# EAGLE library part DRV8424PPWPR (library DRV8424PPWPR)
Motor / Motion / Ignition Controllers & Drivers 35-V, 2.5-A bipolar stepper or dual brushed motor driver with integrated current sensing 28-HTSSOP -40 to 125 Source: Datasheet <https://www.ti.com/lit/ds/symlink/drv8424e.pdf?ts=1621759599316&ref_url=https%3A%2F%2Fwww.mouser.de%2F>
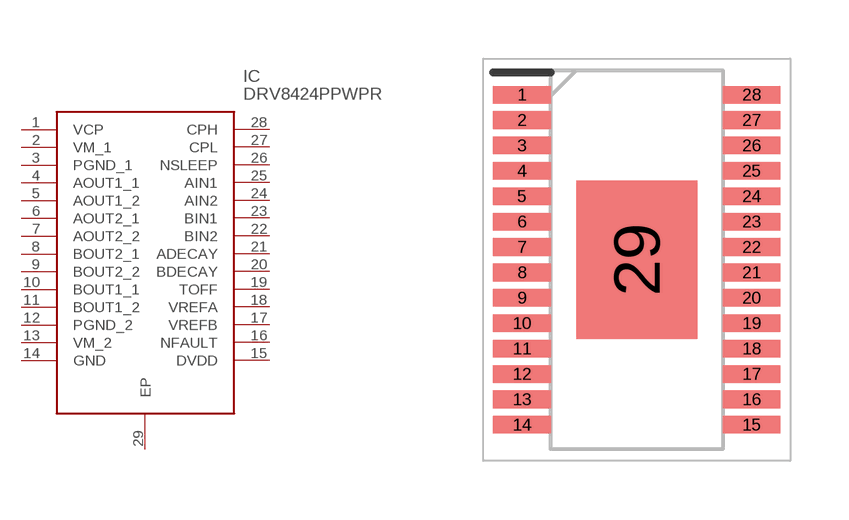
[diagram p0: symbol with the pads of SOP65P640X120-29N; footprint SOP65P640X120-29N]

Designator prefix IC

## DRV8424PPWPR (Description: Motor / Motion / Ignition Controllers & Drivers 35-V, 2.5-A bipolar stepper or dual brushed motor driver with integrated current sensing 28-HTSSOP -40 to 125; Height: 1.2mm; Manufacturer_Name: Texas Instruments; Manufacturer_Part_Number: DRV8424PPWPR; Mouser_Part_Number: 595-DRV8424PPWPR; Mouser_Price-Stock: https://www.mouser.co.uk/ProductDetail/Texas-Instruments/DRV8424PPWPR?qs=CiayqK2gdcKHVqboqYVmRA%3D%3D)  [SOP65P640X120-29N]
1  VCP
2  VM_1
3  PGND_1
4  AOUT1_1
5  AOUT1_2
6  AOUT2_1
7  AOUT2_2
8  BOUT2_1
9  BOUT2_2
10  BOUT1_1
11  BOUT1_2
12  PGND_2
13  VM_2
14  GND
15  DVDD
16  NFAULT
17  VREFB
18  VREFA
19  TOFF
20  BDECAY
21  ADECAY
22  BIN2
23  BIN1
24  AIN2
25  AIN1
26  NSLEEP
27  CPL
28  CPH
29  EP

## Footprint SOP65P640X120-29N (pad centres in mm)
PWP0028M
smd 1.475 x 0.45: 1 -2.938,4.225; 2 -2.938,3.575; 3 -2.938,2.925; 4 -2.938,2.275; 5 -2.938,1.625; 6 -2.938,0.975; 7 -2.938,0.325; 8 -2.938,-0.325; 9 -2.938,-0.975; 10 -2.938,-1.625; 11 -2.938,-2.275; 12 -2.938,-2.925; 13 -2.938,-3.575; 14 -2.938,-4.225; 15 2.938,-4.225; 16 2.938,-3.575; 17 2.938,-2.925; 18 2.938,-2.275; 19 2.938,-1.625; 20 2.938,-0.975; 21 2.938,-0.325; 22 2.938,0.325; 23 2.938,0.975; 24 2.938,1.625; 25 2.938,2.275; 26 2.938,2.925; 27 2.938,3.575; 28 2.938,4.225
smd 3.1 x 4.05: 29 0,0